# Altium footprint library module&chips.PcbLib: 65 footprints (part 1 of 5)
Each footprint in its own frame and in the unit in brackets; x right, y up, seen from the top. Pads: shape width x height; smd on the part's side, far side on the other; paste and mask are expansions set on the pad; w line width, h text height; cw(c..) or ccw(c..) is an arc to the next point about the centre after c.
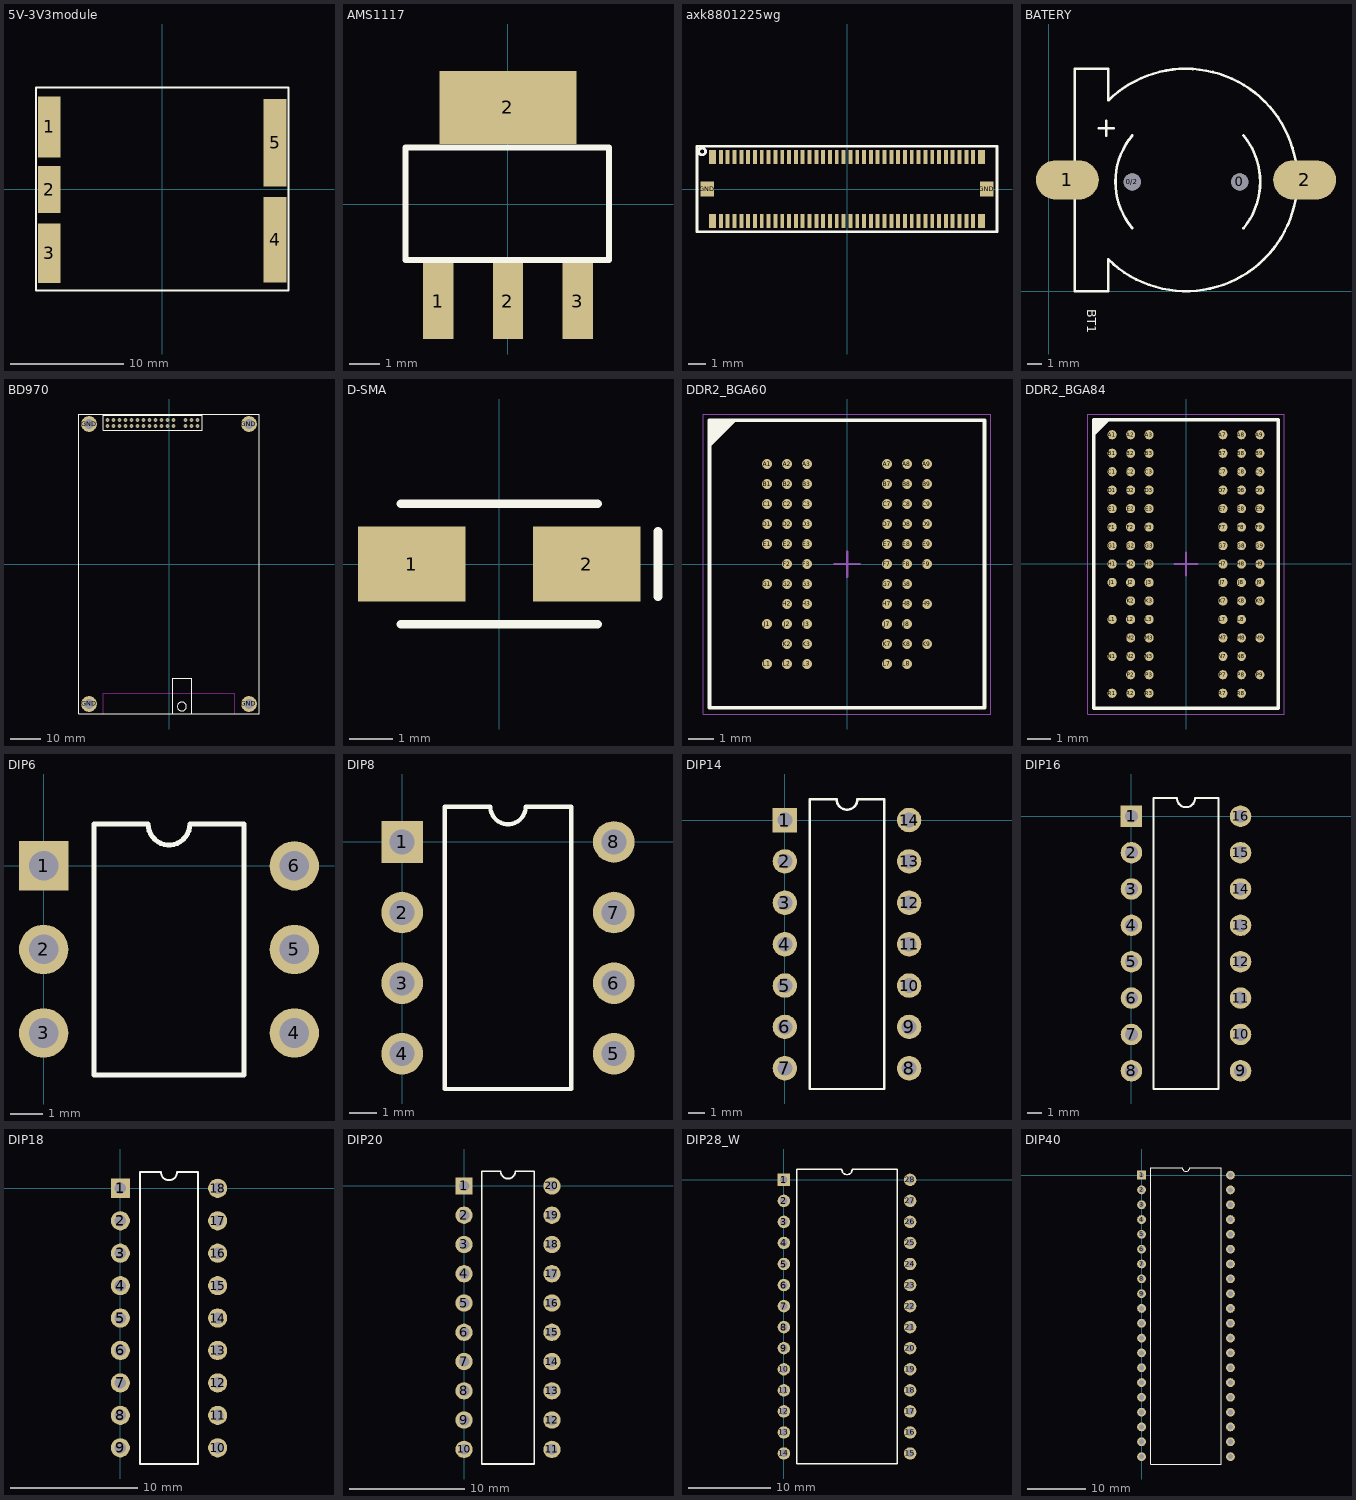
[diagram p0: the footprints below, top view; thin cyan lines are the x and y axes]

## 5V-3V3module [mm] "5V转3.3V模块"
pads (5):
  rect 2x5.4 smd: 1(-10,5.5)
  rect 2x4.2 smd: 2(-10,-0.05)
  rect 2x5.3 smd: 3(-10,-5.7)
  rect 2x7.6 smd: 4(10,-4.5)
  rect 2x7.8 smd: 5(10,4.1)
Top Overlay:
  lines w0.152: -11.2,-9 -11.2,9 11.2,9 11.2,-9 -11.2,-9

## AMS1117 [mm]
pads (4):
  rect 1x2.5 smd: 1(-2.3,-3.188) 2(0,-3.188) 3(2.3,-3.188)
  rect 4.5x2.4 smd: 2(0,3.188)
Top Overlay:
  lines w0.2: -3.375,-1.838 -3.375,1.862 3.325,1.862 3.325,-1.838 -3.375,-1.838

## axk8801225wg [mm] "header"
pads (82):
  rect 0.4x0.8 smd: 1(-7.885,1.88) 2(-7.885,-1.88) 79(7.885,1.88) 80(7.885,-1.88)
  rect 0.23x0.8 smd: 3(-7.4,1.88) 4(-7.4,-1.88) 5(-7,1.88) 6(-7,-1.88) 7(-6.6,1.88) 8(-6.6,-1.88) 9(-6.2,1.88) 10(-6.2,-1.88) 11(-5.8,1.88) 12(-5.8,-1.88) 13(-5.4,1.88) 14(-5.4,-1.88) 15(-5,1.88) 16(-5,-1.88) 17(-4.6,1.88) 18(-4.6,-1.88) 19(-4.2,1.88) 20(-4.2,-1.88) 21(-3.8,1.88) 22(-3.8,-1.88) 23(-3.4,1.88) 24(-3.4,-1.88) 25(-3,1.88) 26(-3,-1.88) 27(-2.6,1.88) 28(-2.6,-1.88) 29(-2.2,1.88) 30(-2.2,-1.88) 31(-1.8,1.88) 32(-1.8,-1.88) 33(-1.4,1.88) 34(-1.4,-1.88) 35(-1,1.88) 36(-1,-1.88) 37(-0.6,1.88) 38(-0.6,-1.88) 39(-0.2,1.88) 40(-0.2,-1.88) 41(0.2,1.88) 42(0.2,-1.88) 43(0.6,1.88) 44(0.6,-1.88) 45(1,1.88) 46(1,-1.88) 47(1.4,1.88) 48(1.4,-1.88) 49(1.8,1.88) 50(1.8,-1.88) 51(2.2,1.88) 52(2.2,-1.88) 53(2.6,1.88) 54(2.6,-1.88) 55(3,1.88) 56(3,-1.88) 57(3.4,1.88) 58(3.4,-1.88) 59(3.8,1.88) 60(3.8,-1.88) 61(4.2,1.88) 62(4.2,-1.88) 63(4.6,1.88) 64(4.6,-1.88) 65(5,1.88) 66(5,-1.88) 67(5.4,1.88) 68(5.4,-1.88) 69(5.8,1.88) 70(5.8,-1.88) 71(6.2,1.88) 72(6.2,-1.88) 73(6.6,1.88) 74(6.6,-1.88) 75(7,1.88) 76(7,-1.88) 77(7.4,1.88) 78(7.4,-1.88)
  rect 0.8x0.9 smd: GND(-8.2,0) GND(8.2,0)
Top Overlay:
  circle w0.152: c-8.5,2.2 r0.2
  lines w0.152: -8.8,-2.5 -8.8,2.5 8.8,2.5 8.8,-2.5 -8.8,-2.5

## BATERY [mil]
pads (4):
  round 46 hole 46: 0(515,295) 0/2(225,295)
  oval 169.29x106.3 smd: 1(50,300) 2(690,300)
Top Overlay:
  lines w7: 135,440 175,440 ; 155,420 155,460 ; 160.38,85.39 160,0 70,0 70,300 70,600 160,600 160.38,514.61 ; 160.48,85.29 ccw(c370,300) 668.19,267.08 ; 160.48,514.71 cw(c370,300) 370,600 cw(c370,300) 668.19,332.92 ; 224.77,170.28 cw(c375,295) 224.99,419.99 ; 525.01,170.01 ccw(c375,295) 525.01,419.99
  text "BT1" at 103.84,-48.79 h24.68

## BD970 [mm]
pads (34):
  round 1.2 hole 0.8: 1(-20.5,48) 2(-20.5,46) 3(-18.5,48) 4(-18.5,46) 5(-16.5,48) 6(-16.5,46) 7(-14.5,48) 8(-14.5,46) 9(-12.5,48) 10(-12.5,46) 11(-10.5,48) 12(-10.5,46) 13(-8.5,48) 14(-8.5,46) 15(-6.5,48) 16(-6.5,46) 17(-4.5,48) 18(-4.5,46) 19(-2.5,48) 20(-2.5,46) 21(-0.5,48) 22(-0.5,46) 23(1.5,48) 24(1.5,46) 25_1(5.5,48) 26_2(5.5,46) 27_3(7.5,48) 28_4(7.5,46) 29_5(9.5,48) 30_6(9.5,46)
  round 5.3 hole 3.3: GND(-26.65,-46.65) GND(-26.65,46.65) GND(26.65,-46.65) GND(26.65,46.65)
Top Overlay:
  circle w0.152: c4.3,-47.5 r1.5
  lines w0.152: 1.27,-50 1.27,-38.1 7.62,-38.1 7.62,-50 ; -30,-50 30,-50 30,50 -30,50 -30,-50 ; -22,44.5 -22,49.5 11,49.5 11,44.5 -22,44.5
Keep-Out Layer:
  lines w0.152: -22,-50 -22,-43 22,-43 22,-50

## D-SMA [mm] "贴片二极管"
height 2.54
pads (2):
  rect 2.5x1.75 smd: 1(-2.032,0) 2(2.032,0)
Top Overlay:
  lines w0.2: -2.286,-1.397 2.286,-1.397 ; -2.286,1.397 2.286,1.397 ; 3.683,-0.762 3.683,0.762

## DDR2_BGA60 [mm] "DDR2_BGA60"
height 1.2
pads (60):
  round 0.4 smd: A1(-3.2,4) A2(-2.4,4) A3(-1.6,4) A7(1.6,4) A8(2.4,4) A9(3.2,4) B1(-3.2,3.2) B2(-2.4,3.2) B3(-1.6,3.2) B7(1.6,3.2) B8(2.4,3.2) B9(3.2,3.2) C1(-3.2,2.4) C2(-2.4,2.4) C3(-1.6,2.4) C7(1.6,2.4) C8(2.4,2.4) C9(3.2,2.4) D1(-3.2,1.6) D2(-2.4,1.6) D3(-1.6,1.6) D7(1.6,1.6) D8(2.4,1.6) D9(3.2,1.6) E1(-3.2,0.8) E2(-2.4,0.8) E3(-1.6,0.8) E7(1.6,0.8) E8(2.4,0.8) E9(3.2,0.8) F2(-2.4,0) F3(-1.6,0) F7(1.6,0) F8(2.4,0) F9(3.2,0) G1(-3.2,-0.8) G2(-2.4,-0.8) G3(-1.6,-0.8) G7(1.6,-0.8) G8(2.4,-0.8) H2(-2.4,-1.6) H3(-1.6,-1.6) H7(1.6,-1.6) H8(2.4,-1.6) H9(3.2,-1.6) J1(-3.2,-2.4) J2(-2.4,-2.4) J3(-1.6,-2.4) J7(1.6,-2.4) J8(2.4,-2.4) K2(-2.4,-3.2) K3(-1.6,-3.2) K7(1.6,-3.2) K8(2.4,-3.2) K9(3.2,-3.2) L1(-3.2,-4) L2(-2.4,-4) L3(-1.6,-4) L7(1.6,-4) L8(2.4,-4)
Top Overlay:
  region: -4.5,5.75 -5.5,4.75 -5.5,5.75
  lines w0.152: -5.5,4.75 -4.5,5.75 ; -5.5,-5.75 5.5,-5.75 5.5,5.75 -5.5,5.75 -5.5,-5.75
Mechanical 13:
  lines w0.1: -5.5,-5.75 5.5,-5.75 5.5,5.75 -5.5,5.75 -5.5,-5.75
Mechanical 15:
  lines w0.05: -5.75,-6 5.75,-6 5.75,6 -5.75,6 -5.75,-6
  lines w0.1: -0.5,0 0.5,0 ; 0,-0.5 0,0.5
3D body: height 1.2, standoff 0.3, extent -5.5,-5.75 5.5,5.75

## DDR2_BGA84 [mm] "DDR2_BGA84"
height 1.2
pads (84):
  round 0.4 smd: A1(-3.2,5.6) A2(-2.4,5.6) A3(-1.6,5.6) A7(1.6,5.6) A8(2.4,5.6) A9(3.2,5.6) B1(-3.2,4.8) B2(-2.4,4.8) B3(-1.6,4.8) B7(1.6,4.8) B8(2.4,4.8) B9(3.2,4.8) C1(-3.2,4) C2(-2.4,4) C3(-1.6,4) C7(1.6,4) C8(2.4,4) C9(3.2,4) D1(-3.2,3.2) D2(-2.4,3.2) D3(-1.6,3.2) D7(1.6,3.2) D8(2.4,3.2) D9(3.2,3.2) E1(-3.2,2.4) E2(-2.4,2.4) E3(-1.6,2.4) E7(1.6,2.4) E8(2.4,2.4) E9(3.2,2.4) F1(-3.2,1.6) F2(-2.4,1.6) F3(-1.6,1.6) F7(1.6,1.6) F8(2.4,1.6) F9(3.2,1.6) G1(-3.2,0.8) G2(-2.4,0.8) G3(-1.6,0.8) G7(1.6,0.8) G8(2.4,0.8) G9(3.2,0.8) H1(-3.2,0) H2(-2.4,0) H3(-1.6,0) H7(1.6,0) H8(2.4,0) H9(3.2,0) J1(-3.2,-0.8) J2(-2.4,-0.8) J3(-1.6,-0.8) J7(1.6,-0.8) J8(2.4,-0.8) J9(3.2,-0.8) K2(-2.4,-1.6) K3(-1.6,-1.6) K7(1.6,-1.6) K8(2.4,-1.6) K9(3.2,-1.6) L1(-3.2,-2.4) L2(-2.4,-2.4) L3(-1.6,-2.4) L7(1.6,-2.4) L8(2.4,-2.4) M2(-2.4,-3.2) M3(-1.6,-3.2) M7(1.6,-3.2) M8(2.4,-3.2) M9(3.2,-3.2) N1(-3.2,-4) N2(-2.4,-4) N3(-1.6,-4) N7(1.6,-4) N8(2.4,-4) P2(-2.4,-4.8) P3(-1.6,-4.8) P7(1.6,-4.8) P8(2.4,-4.8) P9(3.2,-4.8) R1(-3.2,-5.6) R2(-2.4,-5.6) R3(-1.6,-5.6) R7(1.6,-5.6) R8(2.4,-5.6)
Top Overlay:
  region: -3.365,6.25 -4,5.615 -4,6.25
  lines w0.152: -4,5.615 -3.365,6.25 ; -4,-6.25 4,-6.25 4,6.25 -4,6.25 -4,-6.25
Mechanical 13:
  lines w0.1: -4,-6.25 4,-6.25 4,6.25 -4,6.25 -4,-6.25
Mechanical 15:
  lines w0.05: -4.25,-6.5 4.25,-6.5 4.25,6.5 -4.25,6.5 -4.25,-6.5
  lines w0.1: -0.5,0 0.5,0 ; 0,-0.5 0,0.5
3D body: height 1.2, standoff 0.35, extent -4,-6.25 4,6.25

## DIP6 [mm]
pads (6):
  rect 1.5x1.5 hole 0.9: 1(0,0)
  round 1.5 hole 0.9: 2(0,-2.54) 3(0,-5.08) 4(7.62,-5.08) 5(7.62,-2.54) 6(7.62,0)
Top Overlay:
  lines w0.152: 1.537,-6.35 6.083,-6.35 6.083,1.27 4.445,1.27 cw(c3.81,1.27) 3.175,1.27 1.537,1.27 1.537,-6.35

## DIP8 [mm]
pads (8):
  rect 1.5x1.5 hole 0.9: 1(0,0)
  round 1.5 hole 0.9: 2(0,-2.54) 3(0,-5.08) 4(0,-7.62) 5(7.62,-7.62) 6(7.62,-5.08) 7(7.62,-2.54) 8(7.62,0)
Top Overlay:
  lines w0.152: 1.537,-8.89 6.083,-8.89 6.083,1.27 4.445,1.27 cw(c3.81,1.27) 3.175,1.27 1.537,1.27 1.537,-8.89

## DIP14 [mm]
pads (14):
  rect 1.5x1.5 hole 0.9: 1(0,0)
  round 1.5 hole 0.9: 2(0,-2.54) 3(0,-5.08) 4(0,-7.62) 5(0,-10.16) 6(0,-12.7) 7(0,-15.24) 8(7.62,-15.24) 9(7.62,-12.7) 10(7.62,-10.16) 11(7.62,-7.62) 12(7.62,-5.08) 13(7.62,-2.54) 14(7.62,0)
Top Overlay:
  lines w0.152: 1.537,-16.51 6.083,-16.51 6.083,1.27 4.445,1.27 cw(c3.81,1.27) 3.175,1.27 1.537,1.27 1.537,-16.51

## DIP16 [mm]
pads (16):
  rect 1.5x1.5 hole 0.9: 1(0,0)
  round 1.5 hole 0.9: 2(0,-2.54) 3(0,-5.08) 4(0,-7.62) 5(0,-10.16) 6(0,-12.7) 7(0,-15.24) 8(0,-17.78) 9(7.62,-17.78) 10(7.62,-15.24) 11(7.62,-12.7) 12(7.62,-10.16) 13(7.62,-7.62) 14(7.62,-5.08) 15(7.62,-2.54) 16(7.62,0)
Top Overlay:
  lines w0.152: 1.537,-19.05 1.537,1.27 3.175,1.27 ccw(c3.81,1.27) 4.445,1.27 6.083,1.27 6.083,-19.05 1.537,-19.05

## DIP18 [mm]
pads (18):
  rect 1.5x1.5 hole 0.9: 1(0,0)
  round 1.5 hole 0.9: 2(0,-2.54) 3(0,-5.08) 4(0,-7.62) 5(0,-10.16) 6(0,-12.7) 7(0,-15.24) 8(0,-17.78) 9(0,-20.32) 10(7.62,-20.32) 11(7.62,-17.78) 12(7.62,-15.24) 13(7.62,-12.7) 14(7.62,-10.16) 15(7.62,-7.62) 16(7.62,-5.08) 17(7.62,-2.54) 18(7.62,0)
Top Overlay:
  lines w0.152: 1.537,-21.59 1.537,1.27 3.175,1.27 ccw(c3.81,1.27) 4.445,1.27 6.083,1.27 6.083,-21.59 1.537,-21.59

## DIP20 [mm]
pads (20):
  rect 1.5x1.5 hole 0.9: 1(0,0)
  round 1.5 hole 0.9: 2(0,-2.54) 3(0,-5.08) 4(0,-7.62) 5(0,-10.16) 6(0,-12.7) 7(0,-15.24) 8(0,-17.78) 9(0,-20.32) 10(0,-22.86) 11(7.62,-22.86) 12(7.62,-20.32) 13(7.62,-17.78) 14(7.62,-15.24) 15(7.62,-12.7) 16(7.62,-10.16) 17(7.62,-7.62) 18(7.62,-5.08) 19(7.62,-2.54) 20(7.62,0)
Top Overlay:
  lines w0.152: 1.537,-24.13 6.083,-24.13 6.083,1.27 4.445,1.27 cw(c3.81,1.27) 3.175,1.27 1.537,1.27 1.537,-24.13

## DIP28_W [mm]
pads (28):
  rect 1.5x1.5 hole 0.9: 1(0,0)
  round 1.5 hole 0.9: 2(0,-2.54) 3(0,-5.08) 4(0,-7.62) 5(0,-10.16) 6(0,-12.7) 7(0,-15.24) 8(0,-17.78) 9(0,-20.32) 10(0,-22.86) 11(0,-25.4) 12(0,-27.94) 13(0,-30.48) 14(0,-33.02) 15(15.24,-33.02) 16(15.24,-30.48) 17(15.24,-27.94) 18(15.24,-25.4) 19(15.24,-22.86) 20(15.24,-20.32) 21(15.24,-17.78) 22(15.24,-15.24) 23(15.24,-12.7) 24(15.24,-10.16) 25(15.24,-7.62) 26(15.24,-5.08) 27(15.24,-2.54) 28(15.24,0)
Top Overlay:
  lines w0.152: 1.537,-34.29 1.537,1.27 6.985,1.27 ccw(c7.62,1.27) 8.255,1.27 13.703,1.27 13.703,-34.29 1.537,-34.29

## DIP40 [mm]
pads (40):
  rect 1.5x1.5 hole 0.9: 1(0,0)
  round 1.5 hole 0.9: 2(0,-2.54) 3(0,-5.08) 4(0,-7.62) 5(0,-10.16) 6(0,-12.7) 7(0,-15.24) 8(0,-17.78) 9(0,-20.32) 10(0,-22.86) 11(0,-25.4) 12(0,-27.94) 13(0,-30.48) 14(0,-33.02) 15(0,-35.56) 16(0,-38.1) 17(0,-40.64) 18(0,-43.18) 19(0,-45.72) 20(0,-48.26) 21(15.24,-48.26) 22(15.24,-45.72) 23(15.24,-43.18) 24(15.24,-40.64) 25(15.24,-38.1) 26(15.24,-35.56) 27(15.24,-33.02) 28(15.24,-30.48) 29(15.24,-27.94) 30(15.24,-25.4) 31(15.24,-22.86) 32(15.24,-20.32) 33(15.24,-17.78) 34(15.24,-15.24) 35(15.24,-12.7) 36(15.24,-10.16) 37(15.24,-7.62) 38(15.24,-5.08) 39(15.24,-2.54) 40(15.24,0)
Top Overlay:
  lines w0.152: 1.537,-49.53 13.703,-49.53 13.703,1.27 8.255,1.27 cw(c7.62,1.27) 6.985,1.27 1.537,1.27 1.537,-49.53